# EAGLE library part XCV50ES_CS144 (library xilinx-xcv)
xcv50es_cs144 edit this description Auto generated by make-symbol-device-package-bsdl.ulp Rev. 26 Source: xcv50es_cs144.bsd
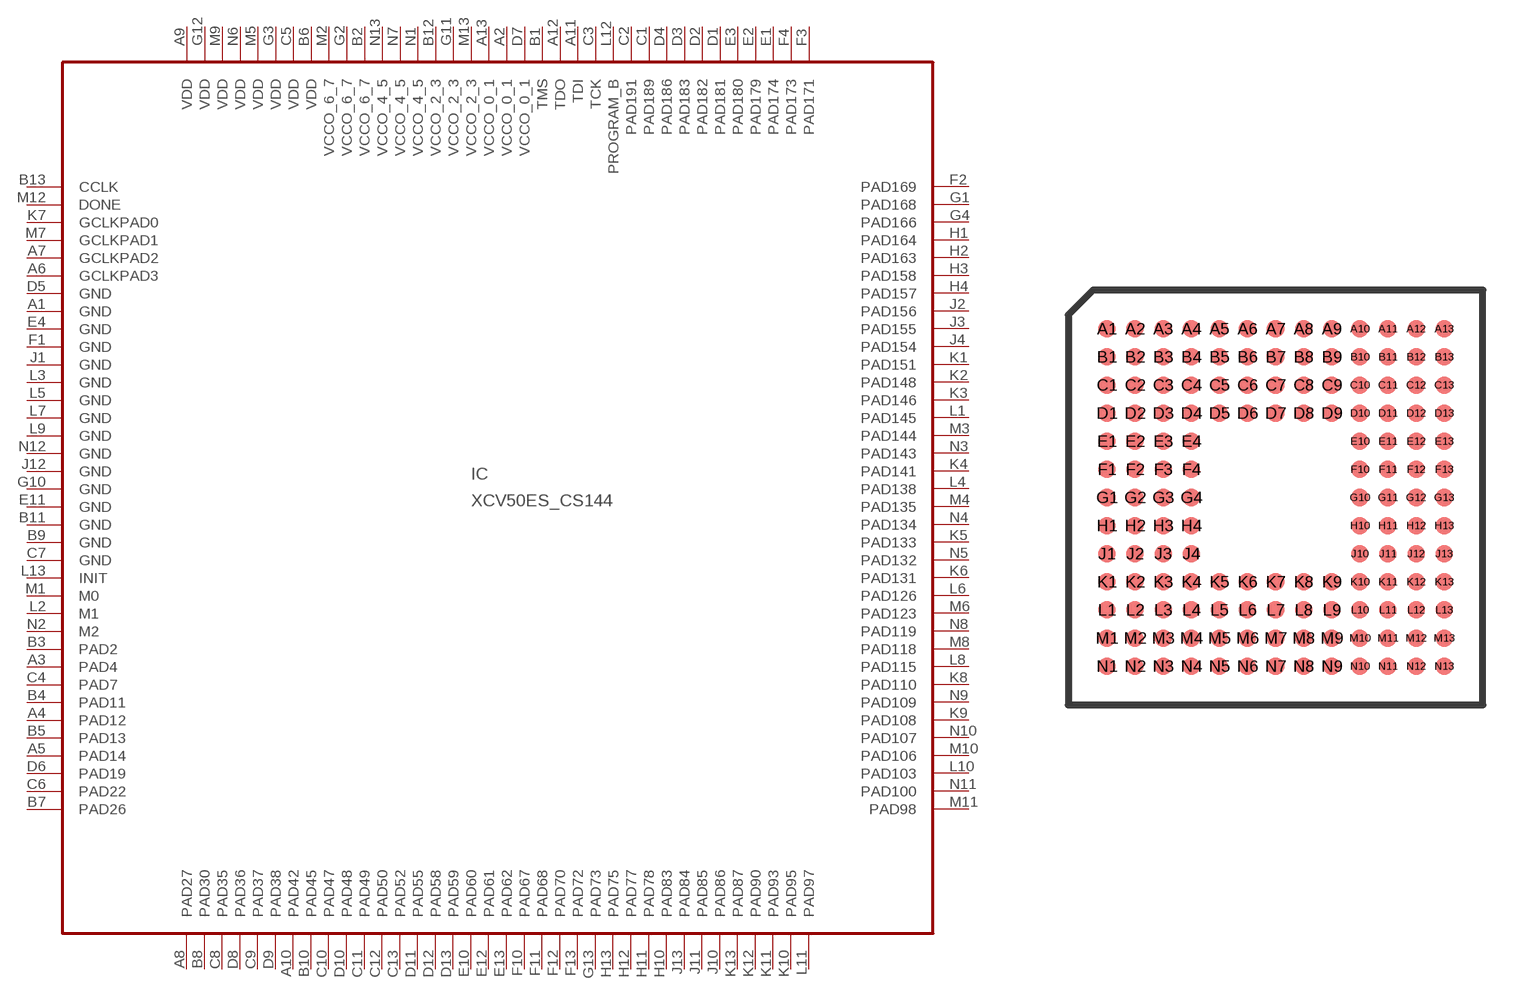
[diagram p74: symbol with the pads of CS144; footprint CS144]

Designator prefix IC

## XCV50ES_CS144 (OC_FARNELL: unknown; OC_NEWARK: unknown)  [CS144]
A1  GND  pwr
A2  VCCO_0_1  pwr
A3  PAD4
A4  PAD12
A5  PAD14
A6  GCLKPAD3  in
A7  GCLKPAD2  in
A8  PAD27
A9  VDD  pwr
A10  PAD42
A11  TDI  in
A12  TDO  out
A13  VCCO_0_1  pwr
B1  TMS  in
B2  VCCO_6_7  pwr
B3  PAD2
B4  PAD11
B5  PAD13
B6  VDD  pwr
B7  PAD26
B8  PAD30
B9  GND  pwr
B10  PAD45
B11  GND  pwr
B12  VCCO_2_3  pwr
B13  CCLK
C1  PAD189
C2  PAD191
C3  TCK  in
C4  PAD7
C5  VDD  pwr
C6  PAD22
C7  GND  pwr
C8  PAD35
C9  PAD37
C10  PAD47
C11  PAD49
C12  PAD50
C13  PAD52
D1  PAD181
D2  PAD182
D3  PAD183
D4  PAD186
D5  GND  pwr
D6  PAD19
D7  VCCO_0_1  pwr
D8  PAD36
D9  PAD38
D10  PAD48
D11  PAD55
D12  PAD58
D13  PAD59
E1  PAD174
E2  PAD179
E3  PAD180
E4  GND  pwr
E10  PAD60
E11  GND  pwr
E12  PAD61
E13  PAD62
F1  GND  pwr
F2  PAD169
F3  PAD171
F4  PAD173
F10  PAD67
F11  PAD68
F12  PAD70
F13  PAD72
G1  PAD168
G2  VCCO_6_7  pwr
G3  VDD  pwr
G4  PAD166
G10  GND  pwr
G11  VCCO_2_3  pwr
G12  VDD  pwr
G13  PAD73
H1  PAD164
H2  PAD163
H3  PAD158
H4  PAD157
H10  PAD83
H11  PAD78
H12  PAD77
H13  PAD75
J1  GND  pwr
J2  PAD156
J3  PAD155
J4  PAD154
J10  PAD86
J11  PAD85
J12  GND  pwr
J13  PAD84
K1  PAD151
K2  PAD148
K3  PAD146
K4  PAD141
K5  PAD133
K6  PAD131
K7  GCLKPAD0  in
K8  PAD110
K9  PAD108
K10  PAD95
K11  PAD93
K12  PAD90
K13  PAD87
L1  PAD145
L2  M1  in
L3  GND  pwr
L4  PAD138
L5  GND  pwr
L6  PAD126
L7  GND  pwr
L8  PAD115
L9  GND  pwr
L10  PAD103
L11  PAD97
L12  PROGRAM_B  in
L13  INIT
M1  M0  in
M2  VCCO_6_7  pwr
M3  PAD144
M4  PAD135
M5  VDD  pwr
M6  PAD123
M7  GCLKPAD1  in
M8  PAD118
M9  VDD  pwr
M10  PAD106
M11  PAD98
M12  DONE
M13  VCCO_2_3  pwr
N1  VCCO_4_5  pwr
N2  M2  in
N3  PAD143
N4  PAD134
N5  PAD132
N6  VDD  pwr
N7  VCCO_4_5  pwr
N8  PAD119
N9  PAD109
N10  PAD107
N11  PAD100
N12  GND  pwr
N13  VCCO_4_5  pwr

## Footprint CS144 (pad centres in mm)
xcv100e_cs144 edit this description Auto generated by make-symbol-device-package-bsdl.ulp Rev. 26 Source: xcv100e_cs144.bsd
smd 0.5 x 0.5: A1 -4.8,4.8; A2 -4,4.8; A3 -3.2,4.8; A4 -2.4,4.8; A5 -1.6,4.8; A6 -0.8,4.8; A7 0,4.8; A8 0.8,4.8; A9 1.6,4.8; A10 2.4,4.8; A11 3.2,4.8; A12 4,4.8; A13 4.8,4.8; B1 -4.8,4; B2 -4,4; B3 -3.2,4; B4 -2.4,4; B5 -1.6,4; B6 -0.8,4; B7 0,4; B8 0.8,4; B9 1.6,4; B10 2.4,4; B11 3.2,4; B12 4,4; B13 4.8,4; C1 -4.8,3.2; C2 -4,3.2; C3 -3.2,3.2; C4 -2.4,3.2; C5 -1.6,3.2; C6 -0.8,3.2; C7 0,3.2; C8 0.8,3.2; C9 1.6,3.2; C10 2.4,3.2; C11 3.2,3.2; C12 4,3.2; C13 4.8,3.2; D1 -4.8,2.4; D2 -4,2.4; D3 -3.2,2.4; D4 -2.4,2.4; D5 -1.6,2.4; D6 -0.8,2.4; D7 0,2.4; D8 0.8,2.4; D9 1.6,2.4; D10 2.4,2.4; D11 3.2,2.4; D12 4,2.4; D13 4.8,2.4; E1 -4.8,1.6; E2 -4,1.6; E3 -3.2,1.6; E4 -2.4,1.6; E10 2.4,1.6; E11 3.2,1.6; E12 4,1.6; E13 4.8,1.6; F1 -4.8,0.8; F2 -4,0.8; F3 -3.2,0.8; F4 -2.4,0.8; F10 2.4,0.8; F11 3.2,0.8; F12 4,0.8; F13 4.8,0.8; G1 -4.8,0; G2 -4,0; G3 -3.2,0; G4 -2.4,0; G10 2.4,0; G11 3.2,0; G12 4,0; G13 4.8,0; H1 -4.8,-0.8; H2 -4,-0.8; H3 -3.2,-0.8; H4 -2.4,-0.8; H10 2.4,-0.8; H11 3.2,-0.8; H12 4,-0.8; H13 4.8,-0.8; J1 -4.8,-1.6; J2 -4,-1.6; J3 -3.2,-1.6; J4 -2.4,-1.6; J10 2.4,-1.6; J11 3.2,-1.6; J12 4,-1.6; J13 4.8,-1.6; K1 -4.8,-2.4; K2 -4,-2.4; K3 -3.2,-2.4; K4 -2.4,-2.4; K5 -1.6,-2.4; K6 -0.8,-2.4; K7 0,-2.4; K8 0.8,-2.4; K9 1.6,-2.4; K10 2.4,-2.4; K11 3.2,-2.4; K12 4,-2.4; K13 4.8,-2.4; L1 -4.8,-3.2; L2 -4,-3.2; L3 -3.2,-3.2; L4 -2.4,-3.2; L5 -1.6,-3.2; L6 -0.8,-3.2; L7 0,-3.2; L8 0.8,-3.2; L9 1.6,-3.2; L10 2.4,-3.2; L11 3.2,-3.2; L12 4,-3.2; L13 4.8,-3.2; M1 -4.8,-4; M2 -4,-4; M3 -3.2,-4; M4 -2.4,-4; M5 -1.6,-4; M6 -0.8,-4; M7 0,-4; M8 0.8,-4; M9 1.6,-4; M10 2.4,-4; M11 3.2,-4; M12 4,-4; M13 4.8,-4; N1 -4.8,-4.8; N2 -4,-4.8; N3 -3.2,-4.8; N4 -2.4,-4.8; N5 -1.6,-4.8; N6 -0.8,-4.8; N7 0,-4.8; N8 0.8,-4.8; N9 1.6,-4.8; N10 2.4,-4.8; N11 3.2,-4.8; N12 4,-4.8; N13 4.8,-4.8